# Altium footprint library BSS138AKMQYL.PcbLib: 1 footprints
Each footprint in its own frame and in the unit in brackets; x right, y up, seen from the top. Pads: shape width x height; smd on the part's side, far side on the other; paste and mask are expansions set on the pad; w line width, h text height; cw(c..) or ccw(c..) is an arc to the next point about the centre after c.
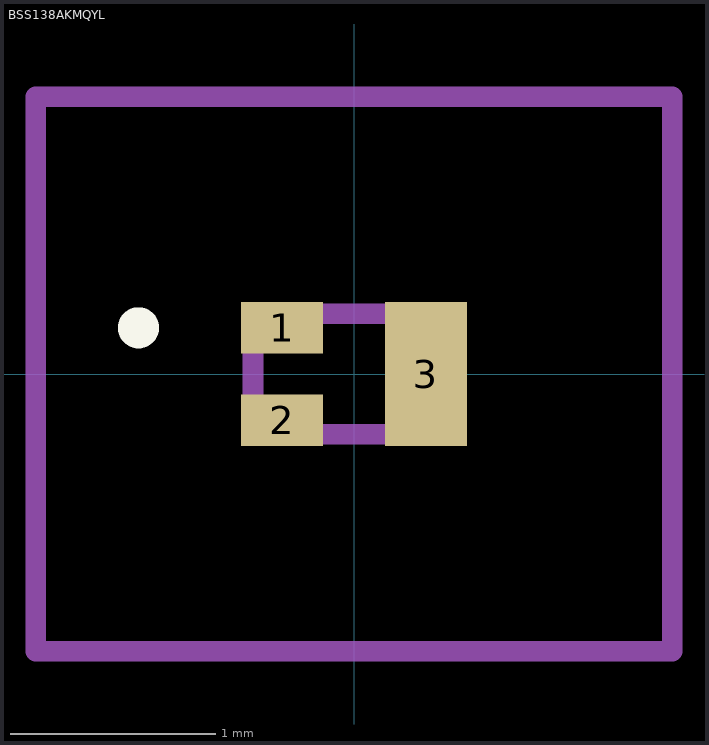
[diagram p0: the footprint, top view; thin cyan lines are the x and y axes]

## BSS138AKMQYL [mm]
pads (3):
  rect 0.4x0.25 smd: 1(-0.35,0.225) 2(-0.35,-0.225)
  rect 0.4x0.7 smd: 3(0.35,0)
Top Overlay:
  lines w0.1: -1.1,0.225 cw(c-1.05,0.225) -1,0.225 ; -1.1,0.225 -1.1,0.225 ; -1.1,0.225 ccw(c-1.05,0.225) -1,0.225 ; -1,0.225 -1,0.225
Mechanical 15:
  lines w0.1: -0.492,-0.293 0.492,-0.293 0.492,0.293 -0.492,0.293 -0.492,-0.293
Mechanical 20:
  lines w0.1: -1.55,-1.35 1.55,-1.35 1.55,1.35 -1.55,1.35 -1.55,-1.35